# EAGLE library part DS1308 (library vincent)
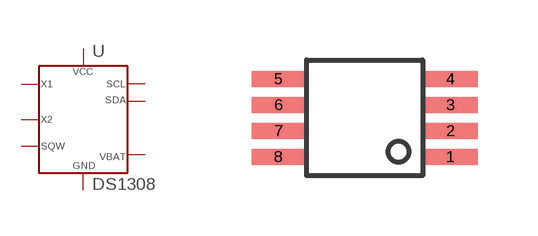
[diagram p8: symbol with the pads of DS1308_USOP; footprint DS1308_USOP]

Designator prefix U

## DS1308USOP  [DS1308_USOP]
1  X1
2  X2
3  VBAT
4  GND
5  SDA
6  SCL
7  SQW
8  VCC

## Footprint DS1308_USOP (pad centres in mm)
smd 1.35 x 0.4: 1 2.15,-0.975; 2 2.15,-0.325; 3 2.15,0.325; 4 2.15,0.975; 5 -2.15,0.975; 6 -2.15,0.325; 7 -2.15,-0.325; 8 -2.15,-0.975